# EAGLE library part IR442* (library 50w-modular-psu)
DUAL LOW SIDE DRIVER Descriptions The IR4426/IR4427/IR4428 (S) is a low voltage, high speed power MOSFET and IGBT driver. Proprietary latch immune CMOS technologies enable ruggedized monolithic construction. Logic inputs are compatible with standard CMOS or LSTTL outputs. The output drivers feature a high pulse current buffer stage designed for minimum driver cross-conduction. Propagation delays between two channels are matched.
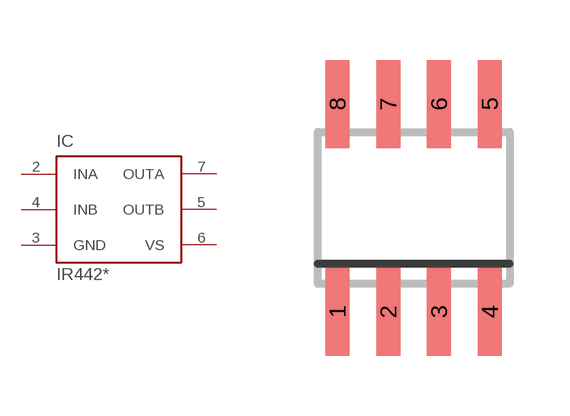
[diagram p2: symbol with the pads of SO08; footprint SO08]

Designator prefix IC

## IR4426S, IR4427S, IR4428S  [SO08]
2  INA  in
3  GND  pwr
4  INB  in
5  OUTB  out
6  VS  pwr
7  OUTA  out

## Footprint SO08 (pad centres in mm)
Small Outline Package 8 NS Package M08A
smd 0.6 x 2.2: 1 -1.905,-2.6; 2 -0.635,-2.6; 3 0.635,-2.6; 4 1.905,-2.6; 5 1.905,2.6; 6 0.635,2.6; 7 -0.635,2.6; 8 -1.905,2.6